# Altium footprint library IDC-2x16_1.27mm.PcbLib: 1 footprints
Each footprint in its own frame and in the unit in brackets; x right, y up, seen from the top. Pads: shape width x height; smd on the part's side, far side on the other; paste and mask are expansions set on the pad; w line width, h text height; cw(c..) or ccw(c..) is an arc to the next point about the centre after c.
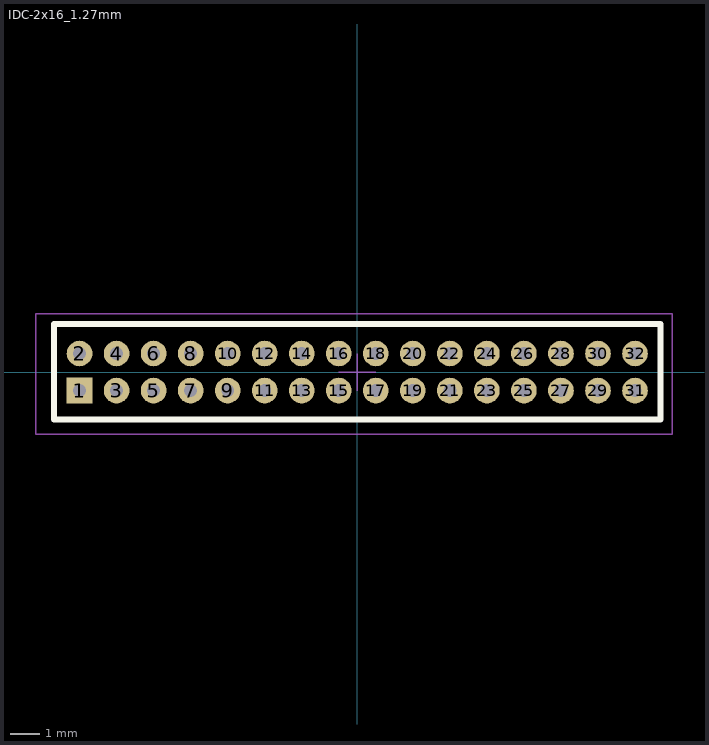
[diagram p0: the footprint, top view; thin cyan lines are the x and y axes]

## IDC-2x16_1.27mm [mm]
height 3.25
pads (32):
  rect 0.88x0.88 hole 0.44: 1(-9.525,-0.635)
  round 0.88 hole 0.44: 2(-9.525,0.635) 3(-8.255,-0.635) 4(-8.255,0.635) 5(-6.985,-0.635) 6(-6.985,0.635) 7(-5.715,-0.635) 8(-5.715,0.635) 9(-4.445,-0.635) 10(-4.445,0.635) 11(-3.175,-0.635) 12(-3.175,0.635) 13(-1.905,-0.635) 14(-1.905,0.635) 15(-0.635,-0.635) 16(-0.635,0.635) 17(0.635,-0.635) 18(0.635,0.635) 19(1.905,-0.635) 20(1.905,0.635) 21(3.175,-0.635) 22(3.175,0.635) 23(4.445,-0.635) 24(4.445,0.635) 25(5.715,-0.635) 26(5.715,0.635) 27(6.985,-0.635) 28(6.985,0.635) 29(8.255,-0.635) 30(8.255,0.635) 31(9.525,-0.635) 32(9.525,0.635)
Top Overlay:
  lines w0.203: -10.4,-1.635 10.4,-1.635 10.4,1.65 -10.4,1.65 -10.4,-1.635
Mechanical 13:
  lines w0.05: -11.025,-2.135 -11.025,2 10.8,2 10.8,-2.135 -11.025,-2.135
  lines w0.1: -10.4,-1.65 10.4,-1.65 10.4,1.65 -10.4,1.65 -10.4,-1.65
Mechanical 15:
  lines w0.05: -0.635,0 0.635,0 ; 0,-0.635 0,0.635